# Altium schematic symbol library CustomParts_4-17-15.SchLib: 28 symbols
Pins are listed as number, name and electrical type; pins without a type are passive.

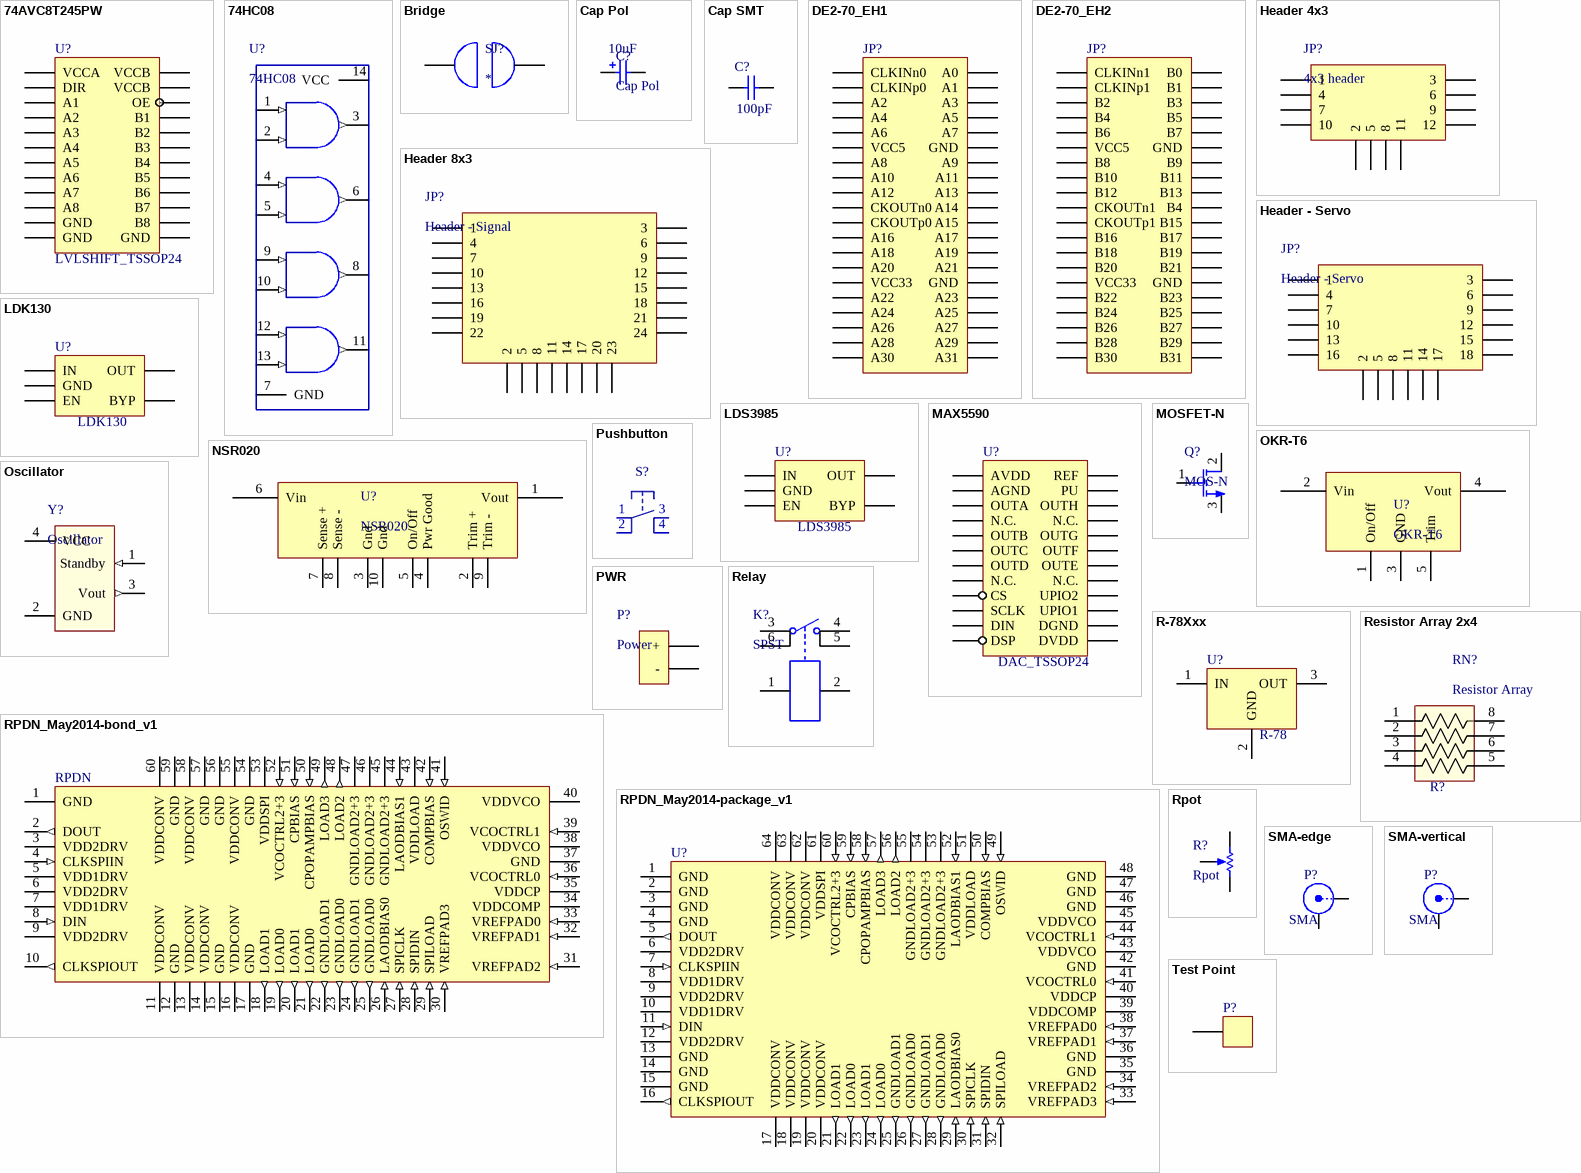
[diagram p0: symbols 74AVC8T245PW to Test Point]

## 74AVC8T245PW
designator U?, comment LVLSHIFT_TSSOP24
NXP Semiconductor 8 bit bidirectional level shifter
footprint 74AVC8T245PW (TSOP, 24-Leads, Body 7.80x4.40mm, Pitch 0.65mm, IPC Medium Density)
pins: 1 VCCA (power), 2 DIR (power), 3 A1 (power), 4 A2 (power), 5 A3 (power), 6 A4 (power), 7 A5 (power), 8 A6 (power), 9 A7 (power), 10 A8 (power), 11 GND (power), 12 GND (power), 13 GND (power), 14 B8 (power), 15 B7 (power), 16 B6 (power), 17 B5 (power), 18 B4 (power), 19 B3 (power), 20 B2 (power), 21 B1 (power), 22 OE (power), 23 VCCB (power), 24 VCCB

## 74HC08
designator U?
Quand 2 input AND
footprint SOP127P700X265-14N (SOP, 14-Leads, Body 10.5x5.4mm (max), Pitch 1.27mm, IPC Medium Density)
pins: 1 (in), 2 (in), 3 (out), 4 (in), 5 (in), 6 (out), 7 GND (power), 8 (out), 9 (in), 10 (in), 11 (out), 12 (in), 13 (in), 14 VCC (power)

## Bridge
designator SJ?
footprint Bridge
pins: 1, 2

## Cap Pol
designator C?  value 10uF
footprint RAD-8mm (Radial Capacitor (polarized))
pins: 1, 2

## Cap SMT
designator C?  value 100pF
SMT Capacitor
footprint 1608N
pins: 1, 2

## DE2-70_EH1
designator JP?
DE2-70 Expansion Header 1 (GPIO0)
footprint DE2-70_EH (DE2-70 Expansion Header (1/2); 800 mill between pin 1s)
pins: 1 CLKINn0 (power), 2 A0, 3 CLKINp0 (power), 4 A1 (power), 5 A2 (power), 6 A3 (power), 7 A4 (power), 8 A5 (power), 9 A6 (power), 10 A7 (power), 11 VCC5 (power), 12 GND (power), 13 A8 (power), 14 A9 (power), 15 A10 (power), 16 A11 (power), 17 A12 (power), 18 A13 (power), 19 CKOUTn0 (power), 20 A14 (power), 21 CKOUTp0 (power), 22 A15 (power), 23 A16 (power), 24 A17 (power), 25 A18 (power), 26 A19 (power), 27 A20 (power), 28 A21 (power), 29 VCC33 (power), 30 GND (power), 31 A22 (power), 32 A23 (power), 33 A24 (power), 34 A25 (power), 35 A26 (power), 36 A27 (power), 37 A28 (power), 38 A29 (power), 39 A30 (power), 40 A31 (power)

## DE2-70_EH2
designator JP?
DE2-70 Expansion Header 2 (GPIO1)
footprint DE2-70_EH (DE2-70 Expansion Header (1/2); 800 mill between pin 1s)
pins: 1 CLKINn1 (power), 2 B0, 3 CLKINp1 (power), 4 B1 (power), 5 B2 (power), 6 B3 (power), 7 B4 (power), 8 B5 (power), 9 B6 (power), 10 B7 (power), 11 VCC5 (power), 12 GND (power), 13 B8 (power), 14 B9 (power), 15 B10 (power), 16 B11 (power), 17 B12 (power), 18 B13 (power), 19 CKOUTn1 (power), 20 B4 (power), 21 CKOUTp1 (power), 22 B15 (power), 23 B16 (power), 24 B17 (power), 25 B18 (power), 26 B19 (power), 27 B20 (power), 28 B21 (power), 29 VCC33 (power), 30 GND (power), 31 B22 (power), 32 B23 (power), 33 B24 (power), 34 B25 (power), 35 B26 (power), 36 B27 (power), 37 B28 (power), 38 B29 (power), 39 B30 (power), 40 B31 (power)

## Header 4x3
designator JP?, comment 4x3 header
footprint HDR4x3-Signal (Special Signal Header, Signal-Plus-Minus)
pins: 1, 2, 3, 4, 5, 6, 7, 8, 9, 10, 11, 12

## Header 8x3
designator JP?, comment Header - Signal
footprint HDR8x3-Signal (Special Signal Header, Signal-Plus-Minus)
pins: 1, 2, 3, 4, 5, 6, 7, 8, 9, 10, 11, 12, 13, 14, 15, 16, 17, 18, 19, 20, 21, 22, 23, 24

## Header - Servo
designator JP?
footprint HDR6x3-Servo (Special Servo Header, Signal-Plus-Minus)
pins: 1, 2, 3, 4, 5, 6, 7, 8, 9, 10, 11, 12, 13, 14, 15, 16, 17, 18

## LDK130
designator U?
ST Microelectronics 1.0V LDO
footprint LDK130, LDS3985 (SOT23, 5-Leads, Body 2.95x2.80mm, Pitch 0.95mm, IPC Medium Density)
pins: 1 IN (power), 2 GND (power), 3 EN (power), 4 BYP (power), 5 OUT (power)

## LDS3985
designator U?
ST Microelectronics 1.0V LDO
footprint LDK130, LDS3985 (SOT23, 5-Leads, Body 2.95x2.80mm, Pitch 0.95mm, IPC Medium Density)
pins: 1 IN (power), 2 GND (power), 3 EN (power), 4 BYP (power), 5 OUT (power)

## MAX5590
designator U?, comment DAC_TSSOP24
8-output, 12-bit DAC. Compatible with MAX5592(10), MAX5594(8)
footprint MAX5590 (TSOP, 24-Leads, Body 7.80x4.40mm, Pitch 0.65mm, IPC Medium Density)
pins: 1 AVDD (power), 2 AGND (power), 3 OUTA (power), 4 N.C. (power), 5 OUTB (power), 6 OUTC (power), 7 OUTD (power), 8 N.C. (power), 9 CS (power), 10 SCLK (power), 11 DIN (power), 12 DSP (power), 13 DVDD (power), 14 DGND (power), 15 UPIO1 (power), 16 UPIO2 (power), 17 N.C. (power), 18 OUTE (power), 19 OUTF (power), 20 OUTG (power), 21 N.C. (power), 22 OUTH (power), 23 PU (power), 24 REF

## MOSFET-N
designator Q?, comment MOS-N
1-G, 2-D, 3-S
footprint MOSFET (1-G, 2-D, 3-S Power Mosfet (N-channel))
pins: 1 G, 2 D, 3 S

## NSR020
designator U?
GE Switching Voltage Regulator, rated 20 A
footprint NSR020 (Footprint for GE Raptor Switching Regulator)
pins: 1 Vout, 2 Trim +, 3 Gnd, 4 Pwr Good, 5 On/Off, 6 Vin, 7 Sense +, 8 Sense -, 9 Trim -, 10 Gnd

## OKR-T6
designator U?
Murata Power Solutions 6A Switching Regulator
footprint OKR-T6 (Footprint for Murata Power Solutions Switching Regulator)
pins: 1 On/Off, 2 Vin, 3 GND, 4 Vout, 5 Trim

## Oscillator
designator Y?
footprint Oscillator (7 mm x 5 mm)
pins: 1 Standby (in), 2 GND (power), 3 Vout (out), 4 VCC (power)

## Pushbutton
designator S?, comment Reset  (value not drawn)
footprint Pushbutton (Reset button footpring, surface mount)
pins: 1, 2, 3, 4

## PWR
designator P?, comment Power
footprint PWR-1 (Power connector, 2 hole - 2 connectiosn)
footprint PWR-2 (6.35 pitch)
footprint XT60-M (XT60 footprint Male)
footprint XT60-F (XT60 footprint Female)
pins: 1 +, 2 -

## R-78Xxx
designator U?, comment R-78
Recom R-78Xxx Switching Regulator
footprint R-78Xxx (RECOM E/B Series Switching Regulators (3.3V / 5.0V))
pins: 1 IN, 2 GND, 3 OUT

## Relay
designator K?, comment SPST
SPST Relay with double connectors
footprint G5RL-1(A)-E-HR (Relay 15A)
pins: 1, 2, 3, 4, 5, 6

## Resistor Array 2x4
designator RN?, comment Resistor Array  value R?
footprint Resistor Array 2 (Convex Resistor Array, 1206(3216) package)
pins: 1, 2, 3, 4, 5, 6, 7, 8

## RPDN_May2014-bond_v1
designator RPDN
RPDN testc chip from May 2014 tapeout
footprint RPDN_May2014-bond_v1
pins: 1 GND (power), 2 DOUT (out), 3 VDD2DRV (power), 4 CLKSPIIN (in), 5 VDD1DRV (power), 6 VDD2DRV (power), 7 VDD1DRV (power), 8 DIN (in), 9 VDD2DRV (power), 10 CLKSPIOUT (out), 11 VDDCONV (power), 12 GND (power), 13 VDDCONV (power), 14 VDDCONV (power), 15 GND (power), 16 VDDCONV (power), 17 GND (power), 18 LOAD1 (out), 19 LOAD0 (out), 20 LOAD1 (out), 21 LOAD0 (out), 22 GNDLOAD1 (out), 23 GNDLOAD0 (out), 24 GNDLOAD1 (out), 25 GNDLOAD0 (out), 26 LAODBIAS0 (in), 27 SPICLK (in), 28 SPIDIN (in), 29 SPILOAD (in), 30 VREFPAD3 (in), 31 VREFPAD2 (in), 32 VREFPAD1 (in), 33 VREFPAD0 (in), 34 VDDCOMP (power), 35 VDDCP (power), 36 VCOCTRL0 (in), 37 GND (power), 38 VDDVCO (power), 39 VCOCTRL1 (in), 40 VDDVCO (power), 41 OSWID (in), 42 COMPBIAS (in), 43 VDDLOAD (power), 44 LAODBIAS1 (in), 45 GNDLOAD2+3 (power), 46 GNDLOAD2+3 (power), 47 GNDLOAD2+3 (power), 48 LOAD2 (out), 49 LOAD3 (out), 50 CPOPAMPBIAS (in), 51 CPBIAS (in), 52 VCOCTRL2+3 (in), 53 VDDSPI (power), 54 GND (power), 55 VDDCONV (power), 56 GND (power), 57 GND (power), 58 VDDCONV (power), 59 GND (power), 60 VDDCONV (power)

## RPDN_May2014-package_v1
designator U?
RPDN testc chip from May 2014 tapeout
footprint RPDN_May2014-package_v1
pins: 1 GND (power), 2 GND (power), 3 GND (power), 4 GND (power), 5 DOUT (out), 6 VDD2DRV (power), 7 CLKSPIIN (in), 8 VDD1DRV (power), 9 VDD2DRV (power), 10 VDD1DRV (power), 11 DIN (in), 12 VDD2DRV (power), 13 GND (power), 14 GND (power), 15 GND (power), 16 CLKSPIOUT (out), 17 VDDCONV (power), 18 VDDCONV (power), 19 VDDCONV (power), 20 VDDCONV (power), 21 LOAD1 (out), 22 LOAD0 (out), 23 LOAD1 (out), 24 LOAD0 (out), 25 GNDLOAD1 (out), 26 GNDLOAD0 (out), 27 GNDLOAD1 (out), 28 GNDLOAD0 (out), 29 LAODBIAS0 (in), 30 SPICLK (in), 31 SPIDIN (in), 32 SPILOAD (in), 33 VREFPAD3 (in), 34 VREFPAD2 (in), 35 GND (power), 36 GND (power), 37 VREFPAD1 (in), 38 VREFPAD0 (in), 39 VDDCOMP (power), 40 VDDCP (power), 41 VCOCTRL0 (in), 42 GND (power), 43 VDDVCO (power), 44 VCOCTRL1 (in), 45 VDDVCO (power), 46 GND (power), 47 GND (power), 48 GND (power), 49 OSWID (in), 50 COMPBIAS (in), 51 VDDLOAD (power), 52 LAODBIAS1 (in), 53 GNDLOAD2+3 (power), 54 GNDLOAD2+3 (power), 55 GNDLOAD2+3 (power), 56 LOAD2 (out), 57 LOAD3 (out), 58 CPOPAMPBIAS (in), 59 CPBIAS (in), 60 VCOCTRL2+3 (in), 61 VDDSPI (power), 62 VDDCONV (power), 63 VDDCONV (power), 64 VDDCONV (power)

## Rpot
designator R?
Surface mount pot
footprint RPOT (5mm x 4.5 mm surface mount potentiometer)
pins: 1 TOP, 2 TAP, 3 BOT

## SMA-edge
designator P?, comment SMA
SMA Edge Connector
footprint SMA-edge
pins: 1 X, 2 Y

## SMA-vertical
designator P?, comment SMA
SMA Edge Connector
footprint SMA-vertical
pins: 1 X, 2 Y

## Test Point
designator P?
Test point
footprint Test point
pins: 1 signal (power)